# Altium schematic symbol library Realtek.SchLib: 1 symbol
Pins are listed as number, name and electrical type; pins without a type are passive.

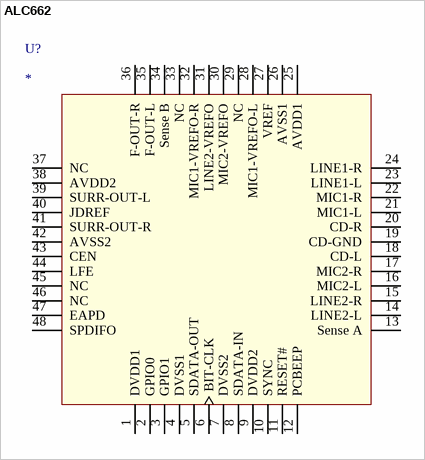
[diagram p0: symbol ALC662]

## ALC662
designator U?
5.1 Channel High Definition Audio Codec
footprint TSQFP50P900X900X160-48L (TSQFP, 48-Leads, Body 7.00x7.00mm, Pitch 0.50mm, IPC High Density)
pins: 1 DVDD1, 2 GPIO0, 3 GPIO1, 4 DVSS1, 5 SDATA-OUT, 6 BIT-CLK, 7 DVSS2, 8 SDATA-IN, 9 DVDD2, 10 SYNC, 11 RESET#, 12 PCBEEP, 13 Sense A, 14 LINE2-L, 15 LINE2-R, 16 MIC2-L, 17 MIC2-R, 18 CD-L, 19 CD-GND, 20 CD-R, 21 MIC1-L, 22 MIC1-R, 23 LINE1-L, 24 LINE1-R, 25 AVDD1, 26 AVSS1, 27 VREF, 28 MIC1-VREFO-L, 29 NC, 30 MIC2-VREFO, 31 LINE2-VREFO, 32 MIC1-VREFO-R, 33 NC, 34 Sense B, 35 F-OUT-L, 36 F-OUT-R, 37 NC, 38 AVDD2, 39 SURR-OUT-L, 40 JDREF, 41 SURR-OUT-R, 42 AVSS2, 43 CEN, 44 LFE, 45 NC, 46 NC, 47 EAPD, 48 SPDIFO